# EAGLE library part LSM6DS3 (library tinyav-lib)
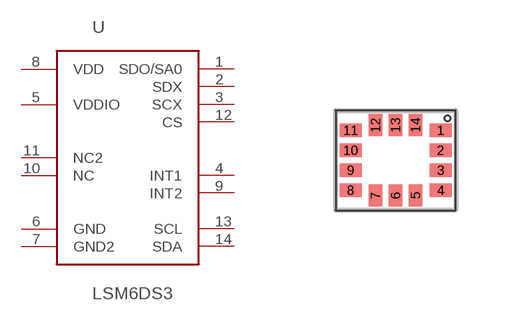
[diagram p3: symbol with the pads of LGA-14L; footprint LGA-14L]

Designator prefix -

## LSM6DS3  [LGA-14L]
1  SDO/SA0
2  SDX
3  SCX
4  INT1
5  VDDIO
6  GND
7  GND2
8  VDD
9  INT2
10  NC
11  NC2
12  CS
13  SCL
14  SDA

## Footprint LGA-14L (pad centres in mm)
smd 0.55 x 0.34: 1 1.13,0.75; 2 1.13,0.25; 3 1.13,-0.25; 4 1.13,-0.75; 8 -1.12,-0.75; 9 -1.12,-0.25; 10 -1.12,0.25; 11 -1.12,0.75
smd 0.34 x 0.55: 5 0.5,-0.88; 6 0,-0.88; 7 -0.5,-0.88; 12 -0.5,0.88; 13 0,0.88; 14 0.5,0.88